# Altium schematic symbol library TaiyoYuden.SchLib: 1 symbol
Pins are listed as number, name and electrical type; pins without a type are passive.

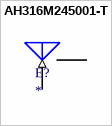
[diagram p0: symbol AH316M245001-T]

## AH316M245001-T
designator E?
ANT BLUETOOTH W-LAN ZIGBEE WIMAX
footprint AH316M
pins: 1 IN (in), 2 GND (power)